# Altium integrated library NSC Audio.IntLib: 691 symbols (part 6 of 18)
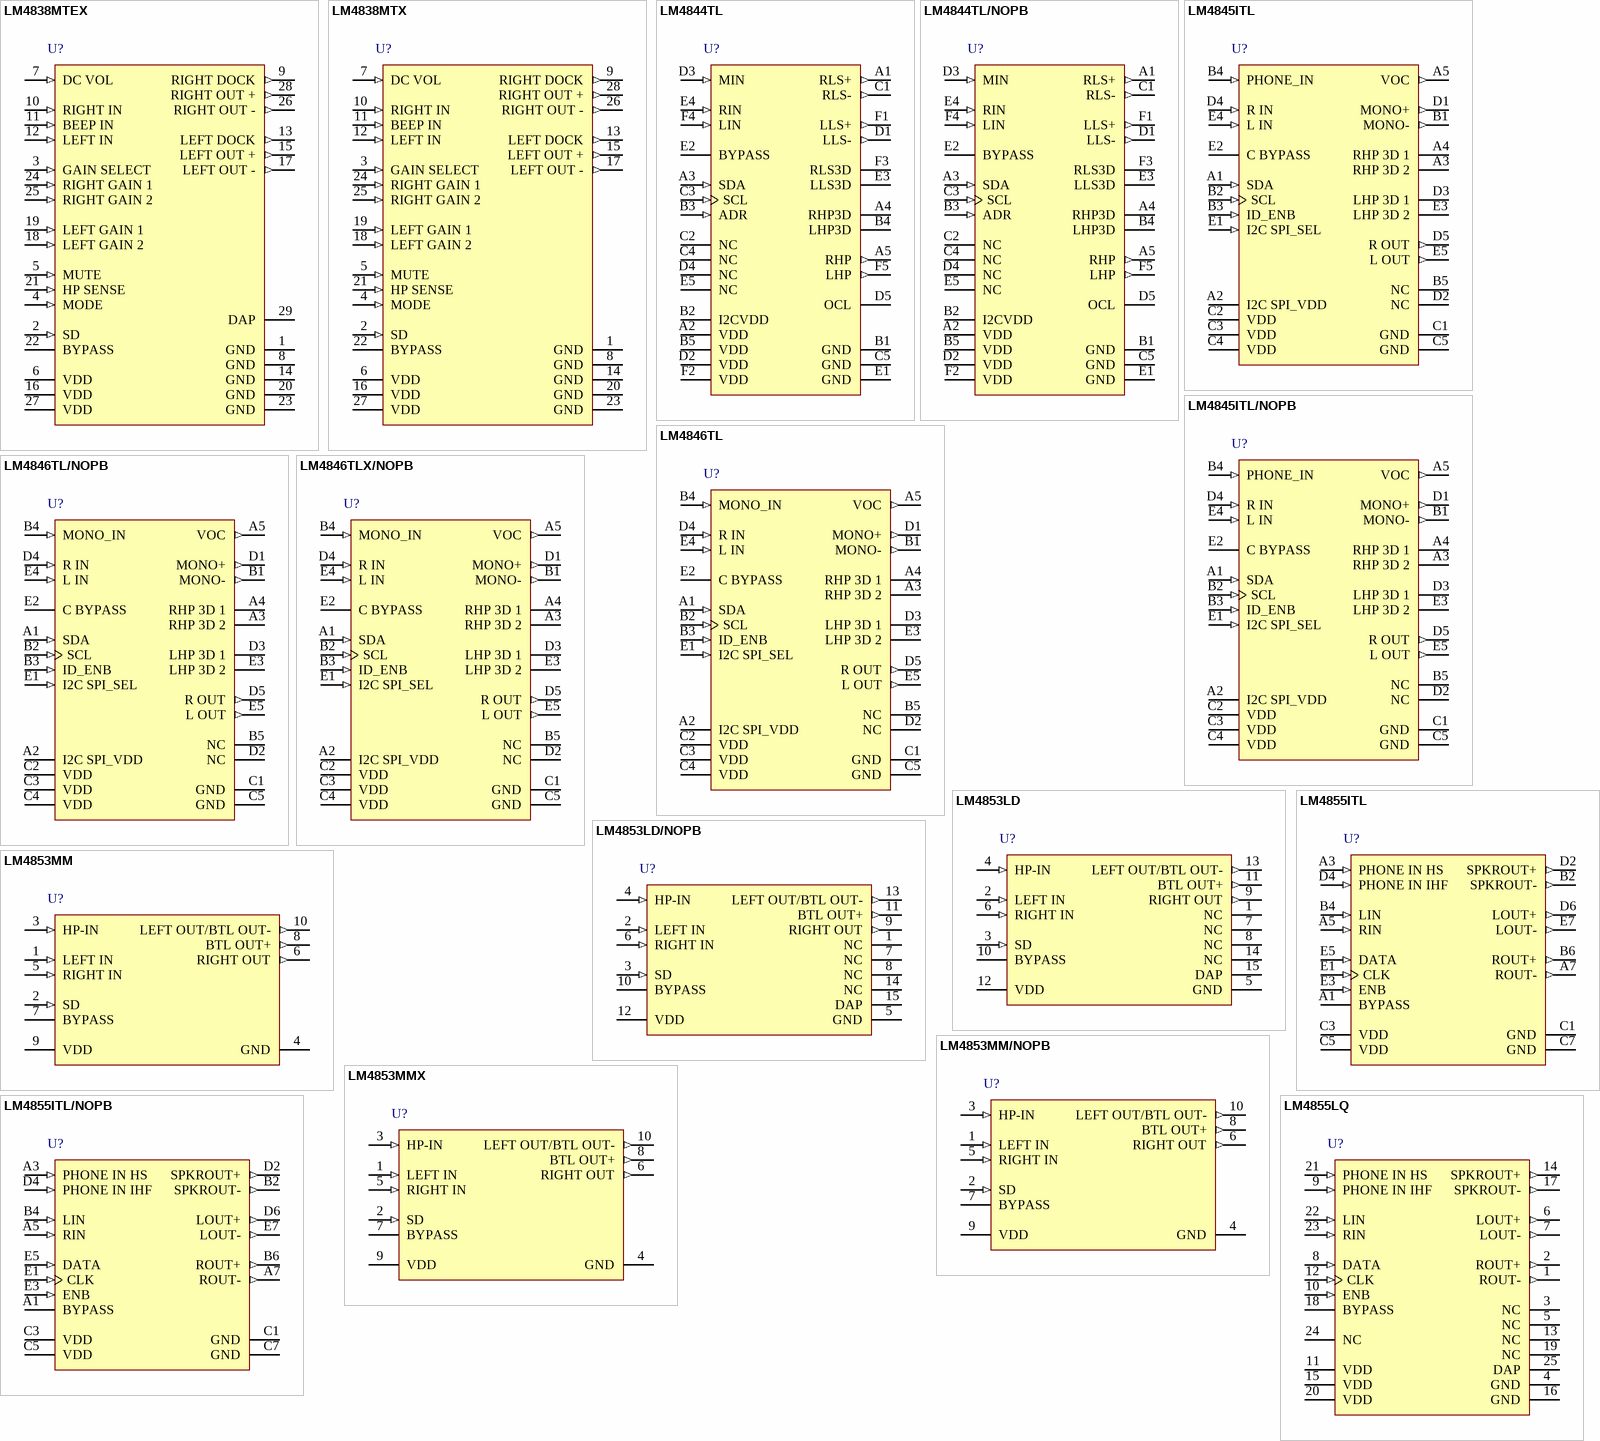
[diagram p32: symbols LM4838MTEX to LM4855LQ]

## LM4846TL
designator U?
Output Capacitor-less Audio Subsystem with Programmable National 3D, 25-pin Micro SMD; PartNumber: LM4846TL; Manufacturer: National Semiconductor; PackageTopMarking: XYTT*I GG5; PowerWise: N; CompType: Audio IC; Published: 4-Dec-2008; DatasheetVersion: Jul-2006; PackageVersion: revD, Dec-2003; PackageReference: TLA25CBA; Publisher: Altium Limited; PackageDescription: Thin Micro SMD, 25 Bump (Large), 0.5mm Pitch; RoHS: Y; PinCount: 25; Code_JEDEC: MO-211-DH; ComponentLink1Description: LM4846 Datasheet; ComponentLink1URL: http://www.national.com/ds/LM/LM4846.pdf; ComponentLink2Description: LM4846 Web Page; ComponentLink2URL: http://www.national.com/pf/LM/LM4846.html; ComponentLink3Description: TLA25CBA Package Page; ComponentLink3URL: http://www.national.com/packaging/folders/tla25cba.html
footprint TLA25CBA (Micro SMD, 25-Leads, Body 2.52x2.55mm, Pitch 0.5mm, NSC Recommended)
pins: A1 SDA (in), A2 I2C SPI_VDD (power), A3 RHP 3D 2, A4 RHP 3D 1, A5 VOC (out), B1 MONO- (out), B2 SCL (in), B3 ID_ENB (in), B4 MONO_IN (in), B5 NC, C1 GND (power), C2 VDD (power), C3 VDD (power), C4 VDD (power), C5 GND (power), D1 MONO+ (out), D2 NC, D3 LHP 3D 1, D4 R IN (in), D5 R OUT (out), E1 I2C SPI_SEL (in), E2 C BYPASS, E3 LHP 3D 2, E4 L IN (in), E5 L OUT (out)

## LM4846TL/NOPB
designator U?
Output Capacitor-less Audio Subsystem with Programmable National 3D, 25-pin Micro SMD, Pb-Free; PartNumber: LM4846TL/NOPB; Manufacturer: National Semiconductor; PackageTopMarking: XYTT*I GG5; PowerWise: N; CompType: Audio IC; Published: 1-Mar-2010; DatasheetVersion: Jul-2006; PackageVersion: revD, Dec-2003; PackageReference: TLA25CBA; Publisher: Altium Limited; PackageDescription: Thin Micro SMD, 25 Bump (Large), 0.5mm Pitch; Supplier 1: Digi-Key; Supplier Part Number 1: LM4846TLTR-ND; Supplier 2: Digi-Key; Supplier Part Number 2: LM4846TLCT-ND; Supplier 3: Digi-Key; Supplier Part Number 3: LM4846TLDKR-ND; RoHS: Y; PinCount: 25; Code_JEDEC: MO-211-DH; ComponentLink1Description: LM4846 Datasheet; ComponentLink1URL: http://www.national.com/ds/LM/LM4846.pdf; ComponentLink2Description: LM4846 Web Page; ComponentLink2URL: http://www.national.com/pf/LM/LM4846.html; ComponentLink3Description: TLA25CBA Package Page; ComponentLink3URL: http://www.national.com/packaging/folders/tla25cba.html
footprint TLA25CBA (Micro SMD, 25-Leads, Body 2.52x2.55mm, Pitch 0.5mm, NSC Recommended)
pins: A1 SDA (in), A2 I2C SPI_VDD (power), A3 RHP 3D 2, A4 RHP 3D 1, A5 VOC (out), B1 MONO- (out), B2 SCL (in), B3 ID_ENB (in), B4 MONO_IN (in), B5 NC, C1 GND (power), C2 VDD (power), C3 VDD (power), C4 VDD (power), C5 GND (power), D1 MONO+ (out), D2 NC, D3 LHP 3D 1, D4 R IN (in), D5 R OUT (out), E1 I2C SPI_SEL (in), E2 C BYPASS, E3 LHP 3D 2, E4 L IN (in), E5 L OUT (out)

## LM4846TLX/NOPB
designator U?
Output Capacitor-less Audio Subsystem with Programmable National 3D, 25-pin Micro SMD, Pb-Free; PartNumber: LM4846TLX/NOPB; Manufacturer: National Semiconductor; PackageTopMarking: XYTT*I GG5; PowerWise: N; CompType: Audio IC; Published: 1-Mar-2010; DatasheetVersion: Jul-2006; PackageVersion: revD, Dec-2003; PackageReference: TLA25CBA; Publisher: Altium Limited; PackageDescription: Thin Micro SMD, 25 Bump (Large), 0.5mm Pitch; Supplier 1: Digi-Key; Supplier Part Number 1: LM4846TLX-ND; RoHS: Y; PinCount: 25; Code_JEDEC: MO-211-DH; ComponentLink1Description: LM4846 Datasheet; ComponentLink1URL: http://www.national.com/ds/LM/LM4846.pdf; ComponentLink2Description: LM4846 Web Page; ComponentLink2URL: http://www.national.com/pf/LM/LM4846.html; ComponentLink3Description: TLA25CBA Package Page; ComponentLink3URL: http://www.national.com/packaging/folders/tla25cba.html
footprint TLA25CBA (Micro SMD, 25-Leads, Body 2.52x2.55mm, Pitch 0.5mm, NSC Recommended)
pins: A1 SDA (in), A2 I2C SPI_VDD (power), A3 RHP 3D 2, A4 RHP 3D 1, A5 VOC (out), B1 MONO- (out), B2 SCL (in), B3 ID_ENB (in), B4 MONO_IN (in), B5 NC, C1 GND (power), C2 VDD (power), C3 VDD (power), C4 VDD (power), C5 GND (power), D1 MONO+ (out), D2 NC, D3 LHP 3D 1, D4 R IN (in), D5 R OUT (out), E1 I2C SPI_SEL (in), E2 C BYPASS, E3 LHP 3D 2, E4 L IN (in), E5 L OUT (out)

## LM4853LD
designator U?
Mono 1.5 W / Stereo 300mW Power Amplifier, 15-pin LLP; PartNumber: LM4853LD; Manufacturer: National Semiconductor; PackageTopMarking: NS*UZXYTT*L4853LD; PowerWise: N; CompType: Audio IC; Published: 4-Dec-2008; DatasheetVersion: Jan-2003; PackageVersion: revA, Aug-2000; PackageReference: LDA14A; Publisher: Altium Limited; PackageDescription: LLP, Plastic, Dual, 4 x 4 x 0.75mm Body, 14 Lead, 0.5mm Pitch; RoHS: N; PinCount: 14; ComponentLink1Description: LM4853 Datasheet; ComponentLink1URL: http://www.national.com/ds/LM/LM4853.pdf; ComponentLink2Description: LM4853 Web Page; ComponentLink2URL: http://www.national.com/pf/LM/LM4853.html; ComponentLink3Description: LDA14A Package Page; ComponentLink3URL: http://www.national.com/packaging/folders/lda14a.html
footprint LDA14A (PSON, 14-Leads, Body 4x4mm, Pitch 0.5mm, NSC Recommended)
pins: 1 NC, 2 LEFT IN (in), 3 SD (in), 4 HP-IN (in), 5 GND (power), 6 RIGHT IN (in), 7 NC, 8 NC, 9 RIGHT OUT (out), 10 BYPASS, 11 BTL OUT+ (out), 12 VDD (power), 13 LEFT OUT/BTL OUT- (out), 14 NC, 15 DAP (power)

## LM4853LD/NOPB
designator U?
Mono 1.5 W / Stereo 300mW Power Amplifier, 14-pin LLP, Pb-Free; PartNumber: LM4853LD/NOPB; Manufacturer: National Semiconductor; PackageTopMarking: NS*UZXYTT*L4853LD; PowerWise: N; CompType: Audio IC; Published: 1-Mar-2010; DatasheetVersion: Jan-2003; PackageVersion: revA, Aug-2000; PackageReference: LDA14A; Publisher: Altium Limited; PackageDescription: LLP, Plastic, Dual, 4 x 4 x 0.75mm Body, 14 Lead, 0.5mm Pitch; Supplier 1: Digi-Key; Supplier Part Number 1: LM4853LDTR-ND; Supplier 2: Digi-Key; Supplier Part Number 2: LM4853LDCT-ND; Supplier 3: Digi-Key; Supplier Part Number 3: LM4853LDDKR-ND; RoHS: Y; PinCount: 14; ComponentLink1Description: LM4853 Datasheet; ComponentLink1URL: http://www.national.com/ds/LM/LM4853.pdf; ComponentLink2Description: LM4853 Web Page; ComponentLink2URL: http://www.national.com/pf/LM/LM4853.html; ComponentLink3Description: LDA14A Package Page; ComponentLink3URL: http://www.national.com/packaging/folders/lda14a.html
footprint LDA14A (PSON, 14-Leads, Body 4x4mm, Pitch 0.5mm, NSC Recommended)
pins: 1 NC, 2 LEFT IN (in), 3 SD (in), 4 HP-IN (in), 5 GND (power), 6 RIGHT IN (in), 7 NC, 8 NC, 9 RIGHT OUT (out), 10 BYPASS, 11 BTL OUT+ (out), 12 VDD (power), 13 LEFT OUT/BTL OUT- (out), 14 NC, 15 DAP (power)

## LM4853MM
designator U?
Mono 1.5 W / Stereo 300mW Power Amplifier, 10-pin MSOP; PartNumber: LM4853MM; Manufacturer: National Semiconductor; PackageTopMarking: ZXTT*G53; PowerWise: N; CompType: Audio IC; Published: 4-Dec-2008; DatasheetVersion: Jan-2003; PackageVersion: revB, Jul-2003; PackageReference: MUB10A; Publisher: Altium Limited; PackageDescription: Mini-SO, Molded, .118 x .118 x .034in Body, 10 Lead, .0197in Pitch; RoHS: N; PinCount: 10; Code_JEDEC: MO-187-BA; ComponentLink1Description: LM4853 Datasheet; ComponentLink1URL: http://www.national.com/ds/LM/LM4853.pdf; ComponentLink2Description: LM4853 Web Page; ComponentLink2URL: http://www.national.com/pf/LM/LM4853.html; ComponentLink3Description: MUB10A Package Page; ComponentLink3URL: http://www.national.com/packaging/folders/mub10a.html
footprint MUB10A_N (TSSOP, 10-Leads, Body 3x3mm, Pitch 0.5mm, IPC Medium Density)
footprint MUB10A_L (TSSOP, 10-Leads, Body 3x3mm, Pitch 0.5mm, IPC High Density)
footprint MUB10A_M (TSSOP, 10-Leads, Body 3x3mm, Pitch 0.5mm, IPC Low Density)
pins: 1 LEFT IN (in), 2 SD (in), 3 HP-IN (in), 4 GND (power), 5 RIGHT IN (in), 6 RIGHT OUT (out), 7 BYPASS, 8 BTL OUT+ (out), 9 VDD (power), 10 LEFT OUT/BTL OUT- (out)

## LM4853MM/NOPB
designator U?
Mono 1.5 W / Stereo 300mW Power Amplifier, 10-pin Mini SOIC, Pb-Free; PartNumber: LM4853MM/NOPB; Manufacturer: National Semiconductor; PackageTopMarking: ZXTT*G53; PowerWise: N; CompType: Audio IC; Published: 1-Mar-2010; DatasheetVersion: Jan-2003; PackageVersion: revB, Jul-2003; PackageReference: MUB10A; Publisher: Altium Limited; PackageDescription: Mini-SO, Molded, .118 x .118 x .034in Body, 10 Lead, .0197in Pitch; Supplier 1: Digi-Key; Supplier Part Number 1: LM4853MMTR-ND; Supplier 2: Digi-Key; Supplier Part Number 2: LM4853MMCT-ND; Supplier 3: Digi-Key; Supplier Part Number 3: LM4853MMDKR-ND; RoHS: Y; PinCount: 10; Code_JEDEC: MO-187-BA; ComponentLink1Description: LM4853 Datasheet; ComponentLink1URL: http://www.national.com/ds/LM/LM4853.pdf; ComponentLink2Description: LM4853 Web Page; ComponentLink2URL: http://www.national.com/pf/LM/LM4853.html; ComponentLink3Description: MUB10A Package Page; ComponentLink3URL: http://www.national.com/packaging/folders/mub10a.html
footprint MUB10A_N (TSSOP, 10-Leads, Body 3x3mm, Pitch 0.5mm, IPC Medium Density)
footprint MUB10A_L (TSSOP, 10-Leads, Body 3x3mm, Pitch 0.5mm, IPC High Density)
footprint MUB10A_M (TSSOP, 10-Leads, Body 3x3mm, Pitch 0.5mm, IPC Low Density)
pins: 1 LEFT IN (in), 2 SD (in), 3 HP-IN (in), 4 GND (power), 5 RIGHT IN (in), 6 RIGHT OUT (out), 7 BYPASS, 8 BTL OUT+ (out), 9 VDD (power), 10 LEFT OUT/BTL OUT- (out)

## LM4853MMX
designator U?
Mono 1.5 W / Stereo 300mW Power Amplifier, 10-pin Mini SOIC; PartNumber: LM4853MMX; Manufacturer: National Semiconductor; PackageTopMarking: ZXTT*G53; PowerWise: N; CompType: Audio IC; Published: 1-Mar-2010; DatasheetVersion: Jan-2003; PackageVersion: revB, Jul-2003; PackageReference: MUB10A; Publisher: Altium Limited; PackageDescription: Mini-SO, Molded, .118 x .118 x .034in Body, 10 Lead, .0197in Pitch; RoHS: N; PinCount: 10; Code_JEDEC: MO-187-BA; ComponentLink1Description: LM4853 Datasheet; ComponentLink1URL: http://www.national.com/ds/LM/LM4853.pdf; ComponentLink2Description: LM4853 Web Page; ComponentLink2URL: http://www.national.com/pf/LM/LM4853.html; ComponentLink3Description: MUB10A Package Page; ComponentLink3URL: http://www.national.com/packaging/folders/mub10a.html
footprint MUB10A_N (TSSOP, 10-Leads, Body 3x3mm, Pitch 0.5mm, IPC Medium Density)
footprint MUB10A_L (TSSOP, 10-Leads, Body 3x3mm, Pitch 0.5mm, IPC High Density)
footprint MUB10A_M (TSSOP, 10-Leads, Body 3x3mm, Pitch 0.5mm, IPC Low Density)
pins: 1 LEFT IN (in), 2 SD (in), 3 HP-IN (in), 4 GND (power), 5 RIGHT IN (in), 6 RIGHT OUT (out), 7 BYPASS, 8 BTL OUT+ (out), 9 VDD (power), 10 LEFT OUT/BTL OUT- (out)

## LM4855ITL
designator U?
Integrated Audio Amplifier System, 18-pin Micro SMD; PartNumber: LM4855ITL; Manufacturer: National Semiconductor; PackageTopMarking: XYVG*I A9; PowerWise: N; CompType: Audio IC; Published: 4-Dec-2008; DatasheetVersion: Nov-2002; PackageVersion: revD, Jan-2005; PackageReference: TLA18AAA; Publisher: Altium Limited; PackageDescription: Thin Micro SMD, 18 Bump (Large), 0.5mm Pitch; Supplier 1: Farnell; Supplier Part Number 1: 1008021; RoHS: Y; PinCount: 18; ComponentLink1Description: LM4855 Datasheet; ComponentLink1URL: http://www.national.com/ds/LM/LM4855.pdf; ComponentLink2Description: LM4855 Web Page; ComponentLink2URL: http://www.national.com/pf/LM/LM4855.html; ComponentLink3Description: TLA18AAA Package Page; ComponentLink3URL: http://www.national.com/packaging/folders/tla18aaa.html
footprint TLA18AAA (Micro SMD, 18-Leads, Body 2.23x2.0mm, Pitch 0.5mm, NSC Recommended)
pins: A1 BYPASS, A3 PHONE IN HS (in), A5 RIN (in), A7 ROUT- (out), B2 SPKROUT- (out), B4 LIN (in), B6 ROUT+ (out), C1 GND (power), C3 VDD (power), C5 VDD (power), C7 GND (power), D2 SPKROUT+ (out), D4 PHONE IN IHF (in), D6 LOUT+ (out), E1 CLK (in), E3 ENB (in), E5 DATA (in), E7 LOUT- (out)

## LM4855ITL/NOPB
designator U?
Integrated Audio Amplifier System, 18-pin Micro SMD, Pb-Free; PartNumber: LM4855ITL/NOPB; Manufacturer: National Semiconductor; PackageTopMarking: XYVG*I A9; PowerWise: N; CompType: Audio IC; Published: 1-Mar-2010; DatasheetVersion: Nov-2002; PackageVersion: revD, Jan-2005; PackageReference: TLA18AAA; Publisher: Altium Limited; PackageDescription: Thin Micro SMD, 18 Bump (Large), 0.5mm Pitch; Supplier 1: Digi-Key; Supplier Part Number 1: LM4855ITLTR-ND; Supplier 2: Digi-Key; Supplier Part Number 2: LM4855ITLCT-ND; Supplier 3: Digi-Key; Supplier Part Number 3: LM4855ITLDKR-ND; RoHS: Y; PinCount: 18; ComponentLink1Description: LM4855 Datasheet; ComponentLink1URL: http://www.national.com/ds/LM/LM4855.pdf; ComponentLink2Description: LM4855 Web Page; ComponentLink2URL: http://www.national.com/pf/LM/LM4855.html; ComponentLink3Description: TLA18AAA Package Page; ComponentLink3URL: http://www.national.com/packaging/folders/tla18aaa.html
footprint TLA18AAA (Micro SMD, 18-Leads, Body 2.23x2.0mm, Pitch 0.5mm, NSC Recommended)
pins: A1 BYPASS, A3 PHONE IN HS (in), A5 RIN (in), A7 ROUT- (out), B2 SPKROUT- (out), B4 LIN (in), B6 ROUT+ (out), C1 GND (power), C3 VDD (power), C5 VDD (power), C7 GND (power), D2 SPKROUT+ (out), D4 PHONE IN IHF (in), D6 LOUT+ (out), E1 CLK (in), E3 ENB (in), E5 DATA (in), E7 LOUT- (out)

## LM4855LQ
designator U?
Integrated Audio Amplifier System, 25-pin LLP; PartNumber: LM4855LQ; Manufacturer: National Semiconductor; PackageTopMarking: NS*UZXYTT*L4855LQ; PowerWise: N; CompType: Audio IC; Published: 4-Dec-2008; DatasheetVersion: Nov-2002; PackageVersion: revB, Sep-2003; PackageReference: LQA24A; Publisher: Altium Limited; PackageDescription: LLP, Plastic, Quad, 5 x 4 x 0.8mm Body, 24 Lead, 0.5mm Pitch; RoHS: N; PinCount: 24; ComponentLink1Description: LM4855 Datasheet; ComponentLink1URL: http://www.national.com/ds/LM/LM4855.pdf; ComponentLink2Description: LM4855 Web Page; ComponentLink2URL: http://www.national.com/pf/LM/LM4855.html; ComponentLink3Description: LQA24A Package Page; ComponentLink3URL: http://www.national.com/packaging/folders/lqa24a.html
footprint LQA24A (PQFN, 24-Leads, Body 4x5mm, Pitch 0.5mm, NSC Recommended)
pins: 1 ROUT- (out), 2 ROUT+ (out), 3 NC, 4 GND (power), 5 NC, 6 LOUT+ (out), 7 LOUT- (out), 8 DATA (in), 9 PHONE IN IHF (in), 10 ENB (in), 11 VDD (power), 12 CLK (in), 13 NC, 14 SPKROUT+ (out), 15 VDD (power), 16 GND (power), 17 SPKROUT- (out), 18 BYPASS, 19 NC, 20 VDD (power), 21 PHONE IN HS (in), 22 LIN (in), 23 RIN (in), 24 NC, 25 DAP (power)

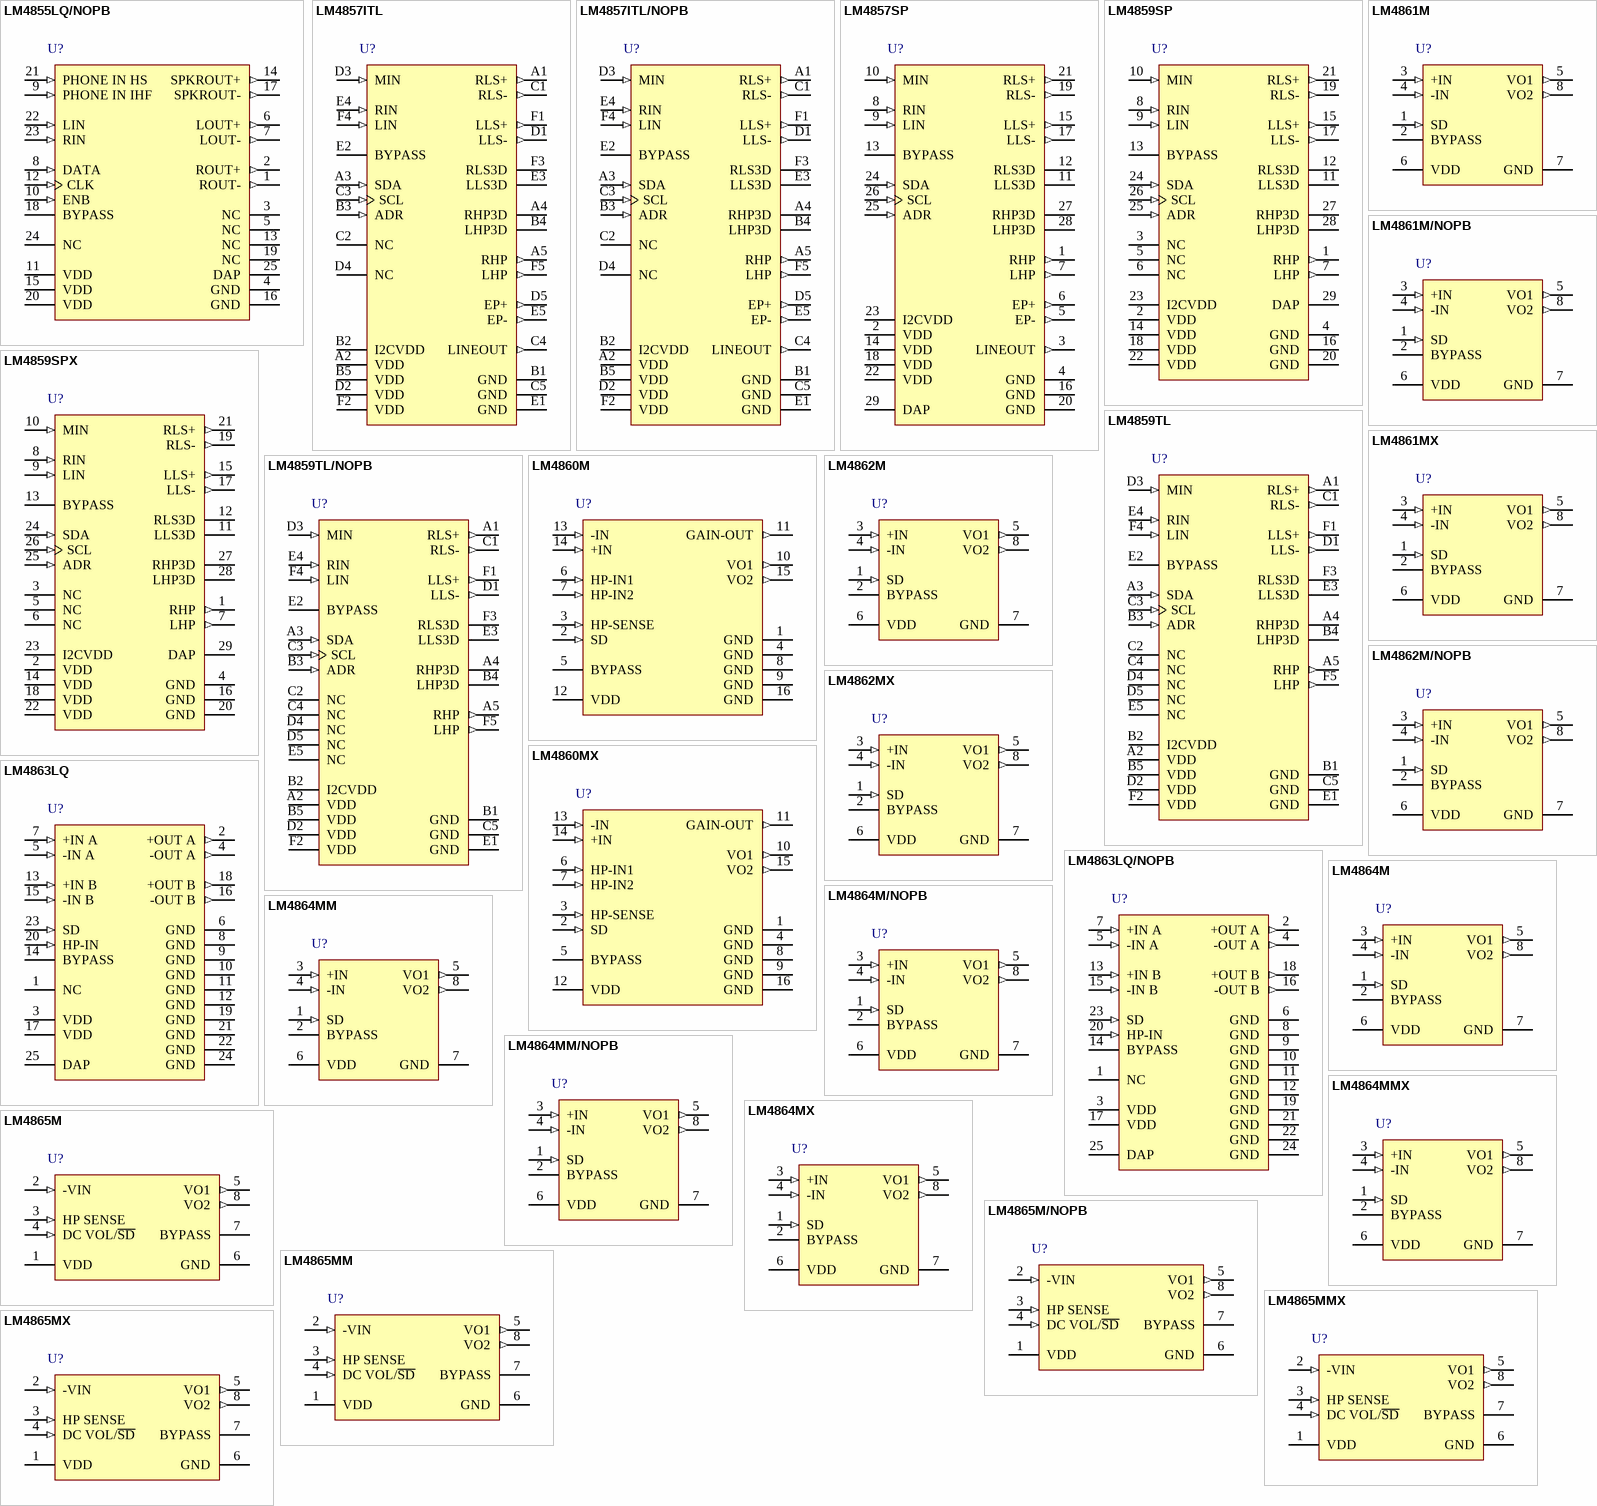
[diagram p8: symbols LM4855LQ/NOPB to LM4865MX]

## LM4855LQ/NOPB
designator U?
Integrated Audio Amplifier System, 24-pin LLP, Pb-Free; PartNumber: LM4855LQ/NOPB; Manufacturer: National Semiconductor; PackageTopMarking: NS*UZXYTT*L4855LQ; PowerWise: N; CompType: Audio IC; Published: 1-Mar-2010; DatasheetVersion: Nov-2002; PackageVersion: revB, Sep-2003; PackageReference: LQA24A; Publisher: Altium Limited; PackageDescription: LLP, Plastic, Quad, 5 x 4 x 0.8mm Body, 24 Lead, 0.5mm Pitch; Supplier 1: Digi-Key; Supplier Part Number 1: LM4855LQTR-ND; Supplier 2: Digi-Key; Supplier Part Number 2: LM4855LQCT-ND; Supplier 3: Digi-Key; Supplier Part Number 3: LM4855LQDKR-ND; RoHS: Y; PinCount: 24; ComponentLink1Description: LM4855 Datasheet; ComponentLink1URL: http://www.national.com/ds/LM/LM4855.pdf; ComponentLink2Description: LM4855 Web Page; ComponentLink2URL: http://www.national.com/pf/LM/LM4855.html; ComponentLink3Description: LQA24A Package Page; ComponentLink3URL: http://www.national.com/packaging/folders/lqa24a.html
footprint LQA24A (PQFN, 24-Leads, Body 4x5mm, Pitch 0.5mm, NSC Recommended)
pins: 1 ROUT- (out), 2 ROUT+ (out), 3 NC, 4 GND (power), 5 NC, 6 LOUT+ (out), 7 LOUT- (out), 8 DATA (in), 9 PHONE IN IHF (in), 10 ENB (in), 11 VDD (power), 12 CLK (in), 13 NC, 14 SPKROUT+ (out), 15 VDD (power), 16 GND (power), 17 SPKROUT- (out), 18 BYPASS, 19 NC, 20 VDD (power), 21 PHONE IN HS (in), 22 LIN (in), 23 RIN (in), 24 NC, 25 DAP (power)

## LM4857ITL
designator U?
Stereo 1.2W Audio Sub-system with 3D Enhancement, 30-pin Micro SMD; PartNumber: LM4857ITL; Manufacturer: National Semiconductor; PackageTopMarking: XVG*I C2; PowerWise: N; CompType: Audio IC; Published: 4-Dec-2008; DatasheetVersion: Jun-2005; PackageVersion: revC, Dec-2003; PackageReference: TLA30CZA; Publisher: Altium Limited; PackageDescription: Thin Micro SMD, 30 Bump (Large), 0.5mm Pitch; Supplier 1: Farnell; Supplier Part Number 1: 8181144; RoHS: Y; PinCount: 30; Code_JEDEC: MO-211-DJ; ComponentLink1Description: LM4857 Datasheet; ComponentLink1URL: http://www.national.com/ds/LM/LM4857.pdf; ComponentLink2Description: LM4857 Web Page; ComponentLink2URL: http://www.national.com/pf/LM/LM4857.html; ComponentLink3Description: TLA30CZA Package Page; ComponentLink3URL: http://www.national.com/packaging/folders/tla30cza.html
footprint TLA30CZA (Micro SMD, 30-Leads, Body 2.95x2.55mm, Pitch 0.5mm, NSC Recommended)
pins: A1 RLS+ (out), A2 VDD (power), A3 SDA (in), A4 RHP3D, A5 RHP (out), B1 GND (power), B2 I2CVDD (power), B3 ADR (in), B4 LHP3D, B5 VDD (power), C1 RLS- (out), C2 NC, C3 SCL (in), C4 LINEOUT (out), C5 GND (power), D1 LLS- (out), D2 VDD (power), D3 MIN (in), D4 NC, D5 EP+ (out), E1 GND (power), E2 BYPASS, E3 LLS3D, E4 RIN (in), E5 EP- (out), F1 LLS+ (out), F2 VDD (power), F3 RLS3D, F4 LIN (in), F5 LHP (out)

## LM4857ITL/NOPB
designator U?
Stereo 1.2W Audio Sub-system with 3D Enhancement, 30-pin Micro SMD, Pb-Free; PartNumber: LM4857ITL/NOPB; Manufacturer: National Semiconductor; PackageTopMarking: XVG*I C2; PowerWise: N; CompType: Audio IC; Published: 1-Mar-2010; DatasheetVersion: Jun-2005; PackageVersion: revC, Dec-2003; PackageReference: TLA30CZA; Publisher: Altium Limited; PackageDescription: Thin Micro SMD, 30 Bump (Large), 0.5mm Pitch; Supplier 1: Digi-Key; Supplier Part Number 1: LM4857ITLTR-ND; Supplier 2: Digi-Key; Supplier Part Number 2: LM4857ITLCT-ND; Supplier 3: Digi-Key; Supplier Part Number 3: LM4857ITLDKR-ND; RoHS: Y; PinCount: 30; Code_JEDEC: MO-211-DJ; ComponentLink1Description: LM4857 Datasheet; ComponentLink1URL: http://www.national.com/ds/LM/LM4857.pdf; ComponentLink2Description: LM4857 Web Page; ComponentLink2URL: http://www.national.com/pf/LM/LM4857.html; ComponentLink3Description: TLA30CZA Package Page; ComponentLink3URL: http://www.national.com/packaging/folders/tla30cza.html
footprint TLA30CZA (Micro SMD, 30-Leads, Body 2.95x2.55mm, Pitch 0.5mm, NSC Recommended)
pins: A1 RLS+ (out), A2 VDD (power), A3 SDA (in), A4 RHP3D, A5 RHP (out), B1 GND (power), B2 I2CVDD (power), B3 ADR (in), B4 LHP3D, B5 VDD (power), C1 RLS- (out), C2 NC, C3 SCL (in), C4 LINEOUT (out), C5 GND (power), D1 LLS- (out), D2 VDD (power), D3 MIN (in), D4 NC, D5 EP+ (out), E1 GND (power), E2 BYPASS, E3 LLS3D, E4 RIN (in), E5 EP- (out), F1 LLS+ (out), F2 VDD (power), F3 RLS3D, F4 LIN (in), F5 LHP (out)

## LM4857SP
designator U?
Stereo 1.2W Audio Sub-system with 3D Enhancement, 29-pin LLP; PartNumber: LM4857SP; Manufacturer: National Semiconductor; PackageTopMarking: NS*UZXYTT*L4857SP; PowerWise: N; CompType: Audio IC; Published: 4-Dec-2008; DatasheetVersion: Jun-2005; PackageVersion: revA, Aug-2003; PackageReference: SPA28A; Publisher: Altium Limited; PackageDescription: LLP, Plastic, Quad, 5 x 5 x 0.6mm Body, 28 Lead, 0.5mm Pitch, No Pullback; RoHS: N; PinCount: 28; Code_JEDEC: MO-220-WHHD-3; ComponentLink1Description: LM4857 Datasheet; ComponentLink1URL: http://www.national.com/ds/LM/LM4857.pdf; ComponentLink2Description: LM4857 Web Page; ComponentLink2URL: http://www.national.com/pf/LM/LM4857.html; ComponentLink3Description: SPA28A Package Page; ComponentLink3URL: http://www.national.com/packaging/folders/spa28a.html
footprint SPA28A (QFN, 28-Leads, Body 5x5mm, Pitch 0.5mm, NSC Recommended)
pins: 1 RHP (out), 2 VDD (power), 3 LINEOUT (out), 4 GND (power), 5 EP- (out), 6 EP+ (out), 7 LHP (out), 8 RIN (in), 9 LIN (in), 10 MIN (in), 11 LLS3D, 12 RLS3D, 13 BYPASS, 14 VDD (power), 15 LLS+ (out), 16 GND (power), 17 LLS- (out), 18 VDD (power), 19 RLS- (out), 20 GND (power), 21 RLS+ (out), 22 VDD (power), 23 I2CVDD (power), 24 SDA (in), 25 ADR (in), 26 SCL (in), 27 RHP3D, 28 LHP3D, 29 DAP (power)

## LM4859SP
designator U?
Stereo 1.2W Audio Sub-system with 3D Enhancement, 29-pin LLP; PartNumber: LM4859SP; Manufacturer: National Semiconductor; PackageTopMarking: NS*UZXYTT*L4859SP; PowerWise: N; CompType: Audio IC; Published: 4-Dec-2008; DatasheetVersion: Jun-2005; PackageVersion: revA, Aug-2003; PackageReference: SPA28A; Publisher: Altium Limited; PackageDescription: LLP, Plastic, Quad, 5 x 5 x 0.6mm Body, 28 Lead, 0.5mm Pitch, No Pullback; RoHS: N; PinCount: 28; Code_JEDEC: MO-220-WHHD-3; ComponentLink1Description: LM4859 Datasheet; ComponentLink1URL: http://www.national.com/ds/LM/LM4859.pdf; ComponentLink2Description: LM4859 Web Page; ComponentLink2URL: http://www.national.com/pf/LM/LM4859.html; ComponentLink3Description: SPA28A Package Page; ComponentLink3URL: http://www.national.com/packaging/folders/spa28a.html
footprint SPA28A (QFN, 28-Leads, Body 5x5mm, Pitch 0.5mm, NSC Recommended)
pins: 1 RHP (out), 2 VDD (power), 3 NC, 4 GND (power), 5 NC, 6 NC, 7 LHP (out), 8 RIN (in), 9 LIN (in), 10 MIN (in), 11 LLS3D, 12 RLS3D, 13 BYPASS, 14 VDD (power), 15 LLS+ (out), 16 GND (power), 17 LLS- (out), 18 VDD (power), 19 RLS- (out), 20 GND (power), 21 RLS+ (out), 22 VDD (power), 23 I2CVDD (power), 24 SDA (in), 25 ADR (in), 26 SCL (in), 27 RHP3D, 28 LHP3D, 29 DAP (power)

## LM4859SPX
designator U?
Stereo 1.2W Audio Sub-system with 3D Enhancement, 28-pin LLP; PartNumber: LM4859SPX; Manufacturer: National Semiconductor; PackageTopMarking: NS*UZXYTT*L4859SP; PowerWise: N; CompType: Audio IC; Published: 1-Mar-2010; DatasheetVersion: Jun-2005; PackageVersion: revA, Aug-2003; PackageReference: SPA28A; Publisher: Altium Limited; PackageDescription: LLP, Plastic, Quad, 5 x 5 x 0.6mm Body, 28 Lead, 0.5mm Pitch, No Pullback; RoHS: N; PinCount: 28; Code_JEDEC: MO-220-WHHD-3; ComponentLink1Description: LM4859 Datasheet; ComponentLink1URL: http://www.national.com/ds/LM/LM4859.pdf; ComponentLink2Description: LM4859 Web Page; ComponentLink2URL: http://www.national.com/pf/LM/LM4859.html; ComponentLink3Description: SPA28A Package Page; ComponentLink3URL: http://www.national.com/packaging/folders/spa28a.html
footprint SPA28A (QFN, 28-Leads, Body 5x5mm, Pitch 0.5mm, NSC Recommended)
pins: 1 RHP (out), 2 VDD (power), 3 NC, 4 GND (power), 5 NC, 6 NC, 7 LHP (out), 8 RIN (in), 9 LIN (in), 10 MIN (in), 11 LLS3D, 12 RLS3D, 13 BYPASS, 14 VDD (power), 15 LLS+ (out), 16 GND (power), 17 LLS- (out), 18 VDD (power), 19 RLS- (out), 20 GND (power), 21 RLS+ (out), 22 VDD (power), 23 I2CVDD (power), 24 SDA (in), 25 ADR (in), 26 SCL (in), 27 RHP3D, 28 LHP3D, 29 DAP (power)

## LM4859TL
designator U?
Stereo 1.2W Audio Sub-system with 3D Enhancement, 30-pin Micro SMD; PartNumber: LM4859TL; Manufacturer: National Semiconductor; PackageTopMarking: XYTT*I GF1; PowerWise: N; CompType: Audio IC; Published: 4-Dec-2008; DatasheetVersion: Jun-2005; PackageVersion: revC, Dec-2003; PackageReference: TLA30CZA; Publisher: Altium Limited; PackageDescription: Thin Micro SMD, 30 Bump (Large), 0.5mm Pitch; RoHS: Y; PinCount: 30; Code_JEDEC: MO-211-DJ; ComponentLink1Description: LM4859 Datasheet; ComponentLink1URL: http://www.national.com/ds/LM/LM4859.pdf; ComponentLink2Description: LM4859 Web Page; ComponentLink2URL: http://www.national.com/pf/LM/LM4859.html; ComponentLink3Description: TLA30CZA Package Page; ComponentLink3URL: http://www.national.com/packaging/folders/tla30cza.html
footprint TLA30CZA (Micro SMD, 30-Leads, Body 2.95x2.55mm, Pitch 0.5mm, NSC Recommended)
pins: A1 RLS+ (out), A2 VDD (power), A3 SDA (in), A4 RHP3D, A5 RHP (out), B1 GND (power), B2 I2CVDD (power), B3 ADR (in), B4 LHP3D, B5 VDD (power), C1 RLS- (out), C2 NC, C3 SCL (in), C4 NC, C5 GND (power), D1 LLS- (out), D2 VDD (power), D3 MIN (in), D4 NC, D5 NC, E1 GND (power), E2 BYPASS, E3 LLS3D, E4 RIN (in), E5 NC, F1 LLS+ (out), F2 VDD (power), F3 RLS3D, F4 LIN (in), F5 LHP (out)

## LM4859TL/NOPB
designator U?
Stereo 1.2W Audio Sub-system with 3D Enhancement, 30-pin Micro SMD, Pb-Free; PartNumber: LM4859TL/NOPB; Manufacturer: National Semiconductor; PackageTopMarking: XYTT*I GF1; PowerWise: N; CompType: Audio IC; Published: 1-Mar-2010; DatasheetVersion: Jun-2005; PackageVersion: revC, Dec-2003; PackageReference: TLA30CZA; Publisher: Altium Limited; PackageDescription: Thin Micro SMD, 30 Bump (Large), 0.5mm Pitch; Supplier 1: Digi-Key; Supplier Part Number 1: LM4859TLTR-ND; Supplier 2: Digi-Key; Supplier Part Number 2: LM4859TLCT-ND; Supplier 3: Digi-Key; Supplier Part Number 3: LM4859TLDKR-ND; RoHS: Y; PinCount: 30; Code_JEDEC: MO-211-DJ; ComponentLink1Description: LM4859 Datasheet; ComponentLink1URL: http://www.national.com/ds/LM/LM4859.pdf; ComponentLink2Description: LM4859 Web Page; ComponentLink2URL: http://www.national.com/pf/LM/LM4859.html; ComponentLink3Description: TLA30CZA Package Page; ComponentLink3URL: http://www.national.com/packaging/folders/tla30cza.html
footprint TLA30CZA (Micro SMD, 30-Leads, Body 2.95x2.55mm, Pitch 0.5mm, NSC Recommended)
pins: A1 RLS+ (out), A2 VDD (power), A3 SDA (in), A4 RHP3D, A5 RHP (out), B1 GND (power), B2 I2CVDD (power), B3 ADR (in), B4 LHP3D, B5 VDD (power), C1 RLS- (out), C2 NC, C3 SCL (in), C4 NC, C5 GND (power), D1 LLS- (out), D2 VDD (power), D3 MIN (in), D4 NC, D5 NC, E1 GND (power), E2 BYPASS, E3 LLS3D, E4 RIN (in), E5 NC, F1 LLS+ (out), F2 VDD (power), F3 RLS3D, F4 LIN (in), F5 LHP (out)

## LM4860M
designator U?
1W Audio Power Amplifier with Shutdown Mode, 16-pin Narrow SOIC; PartNumber: LM4860M; Manufacturer: National Semiconductor; PackageTopMarking: NSUZXYTTE#*LM4860M; PowerWise: N; CompType: Audio IC; Published: 4-Dec-2008; DatasheetVersion: Aug-2000; PackageVersion: revJ, Aug-1995; PackageReference: M16A; Publisher: Altium Limited; PackageDescription: Molded Package, SO, .150in Wide, 16 Lead; Supplier 1: Farnell; Supplier Part Number 1: 9490540; RoHS: N; PinCount: 16; Code_JEDEC: MS-012-AC; Code_IPC: SOIC127P600-16; ComponentLink1Description: LM4860 Datasheet; ComponentLink1URL: http://www.national.com/ds/LM/LM4860.pdf; ComponentLink2Description: LM4860 Web Page; ComponentLink2URL: http://www.national.com/pf/LM/LM4860.html; ComponentLink3Description: M16A Package Page; ComponentLink3URL: http://www.national.com/packaging/folders/m16a.html
footprint M16A_N (SOIC, 16-Leads, Body 9.9x3.9mm, Pitch 1.27mm, IPC Medium Density)
footprint M16A_L (SOIC, 16-Leads, Body 9.9x3.9mm, Pitch 1.27mm, IPC High Density)
footprint M16A_M (SOIC, 16-Leads, Body 9.9x3.9mm, Pitch 1.27mm, IPC Low Density)
pins: 1 GND (power), 2 SD (in), 3 HP-SENSE (in), 4 GND (power), 5 BYPASS, 6 HP-IN1 (in), 7 HP-IN2 (in), 8 GND (power), 9 GND (power), 10 VO1 (out), 11 GAIN-OUT (out), 12 VDD (power), 13 -IN (in), 14 +IN (in), 15 VO2 (out), 16 GND (power)

## LM4860MX
designator U?
1W Audio Power Amplifier with Shutdown Mode, 16-pin Narrow SOIC; PartNumber: LM4860MX; Manufacturer: National Semiconductor; PackageTopMarking: NSUZXYTTE#*LM4860M; PowerWise: N; CompType: Audio IC; Published: 1-Mar-2010; DatasheetVersion: Aug-2000; PackageVersion: revJ, Aug-1995; PackageReference: M16A; Publisher: Altium Limited; PackageDescription: Molded Package, SO, .150in Wide, 16 Lead; RoHS: N; PinCount: 16; Code_JEDEC: MS-012-AC; Code_IPC: SOIC127P600-16; ComponentLink1Description: LM4860 Datasheet; ComponentLink1URL: http://www.national.com/ds/LM/LM4860.pdf; ComponentLink2Description: LM4860 Web Page; ComponentLink2URL: http://www.national.com/pf/LM/LM4860.html; ComponentLink3Description: M16A Package Page; ComponentLink3URL: http://www.national.com/packaging/folders/m16a.html
footprint M16A_N (SOIC, 16-Leads, Body 9.9x3.9mm, Pitch 1.27mm, IPC Medium Density)
footprint M16A_L (SOIC, 16-Leads, Body 9.9x3.9mm, Pitch 1.27mm, IPC High Density)
footprint M16A_M (SOIC, 16-Leads, Body 9.9x3.9mm, Pitch 1.27mm, IPC Low Density)
pins: 1 GND (power), 2 SD (in), 3 HP-SENSE (in), 4 GND (power), 5 BYPASS, 6 HP-IN1 (in), 7 HP-IN2 (in), 8 GND (power), 9 GND (power), 10 VO1 (out), 11 GAIN-OUT (out), 12 VDD (power), 13 -IN (in), 14 +IN (in), 15 VO2 (out), 16 GND (power)

## LM4861M
designator U?
1.1W Audio Power Amplifier with Shutdown Mode, 8-pin Narrow SOIC; PartNumber: LM4861M; Manufacturer: National Semiconductor; PackageTopMarking: NSZXTT*LM*4861M; PowerWise: N; CompType: Audio IC; Published: 4-Dec-2008; DatasheetVersion: Feb-2003; PackageVersion: revM, May-2009; PackageReference: M08A; Publisher: Altium Limited; PackageDescription: SOIC Narrow, 4.9 x 3.9 x 1.45mm, 8 Lead, 1.27mm Pitch; Supplier 1: Farnell; Supplier Part Number 1: 9493794; RoHS: N; PinCount: 8; Code_JEDEC: MS-012-AA; Code_IPC: SOIC127P600-8; ComponentLink1Description: LM4861 Datasheet; ComponentLink1URL: http://www.national.com/ds/LM/LM4861.pdf; ComponentLink2Description: LM4861 Web Page; ComponentLink2URL: http://www.national.com/pf/LM/LM4861.html; ComponentLink3Description: M08A Package Page; ComponentLink3URL: http://www.national.com/packaging/folders/m08a.html
footprint M08A_N (SOIC, 8-Leads, Body 4.9x3.9mm, Pitch 1.27mm, IPC Medium Density)
footprint M08A_L (SOIC, 8-Leads, Body 4.9x3.9mm, Pitch 1.27mm, IPC High Density)
footprint M08A_M (SOIC, 8-Leads, Body 4.9x3.9mm, Pitch 1.27mm, IPC Low Density)
pins: 1 SD (in), 2 BYPASS, 3 +IN (in), 4 -IN (in), 5 VO1 (out), 6 VDD (power), 7 GND (power), 8 VO2 (out)

## LM4861M/NOPB
designator U?
1.1W Audio Power Amplifier with Shutdown Mode, 8-pin Narrow SOIC, Pb-Free; PartNumber: LM4861M/NOPB; Manufacturer: National Semiconductor; PackageTopMarking: NSZXTT*LM*4861M; PowerWise: N; CompType: Audio IC; Published: 1-Mar-2010; DatasheetVersion: Feb-2003; PackageVersion: revM, May-2009; PackageReference: M08A; Publisher: Altium Limited; PackageDescription: SOIC Narrow, 4.9 x 3.9 x 1.45mm, 8 Lead, 1.27mm Pitch; Supplier 1: Digi-Key; Supplier Part Number 1: LM4861M-ND; Supplier 2: Farnell; Supplier Part Number 2: 1263952; RoHS: Y; PinCount: 8; Code_JEDEC: MS-012-AA; Code_IPC: SOIC127P600-8; ComponentLink1Description: LM4861 Datasheet; ComponentLink1URL: http://www.national.com/ds/LM/LM4861.pdf; ComponentLink2Description: LM4861 Web Page; ComponentLink2URL: http://www.national.com/pf/LM/LM4861.html; ComponentLink3Description: M08A Package Page; ComponentLink3URL: http://www.national.com/packaging/folders/m08a.html
footprint M08A_N (SOIC, 8-Leads, Body 4.9x3.9mm, Pitch 1.27mm, IPC Medium Density)
footprint M08A_L (SOIC, 8-Leads, Body 4.9x3.9mm, Pitch 1.27mm, IPC High Density)
footprint M08A_M (SOIC, 8-Leads, Body 4.9x3.9mm, Pitch 1.27mm, IPC Low Density)
pins: 1 SD (in), 2 BYPASS, 3 +IN (in), 4 -IN (in), 5 VO1 (out), 6 VDD (power), 7 GND (power), 8 VO2 (out)

## LM4861MX
designator U?
1.1W Audio Power Amplifier with Shutdown Mode, 8-pin Narrow SOIC; PartNumber: LM4861MX; Manufacturer: National Semiconductor; PackageTopMarking: NSZXTT*LM*4861M; PowerWise: N; CompType: Audio IC; Published: 1-Mar-2010; DatasheetVersion: Feb-2003; PackageVersion: revM, May-2009; PackageReference: M08A; Publisher: Altium Limited; PackageDescription: SOIC Narrow, 4.9 x 3.9 x 1.45mm, 8 Lead, 1.27mm Pitch; Supplier 1: Digi-Key; Supplier Part Number 1: LM4861MXTR-ND; Supplier 2: Digi-Key; Supplier Part Number 2: LM4861MXCT-ND; Supplier 3: Digi-Key; Supplier Part Number 3: LM4861MXDKR-ND; RoHS: N; PinCount: 8; Code_JEDEC: MS-012-AA; Code_IPC: SOIC127P600-8; ComponentLink1Description: LM4861 Datasheet; ComponentLink1URL: http://www.national.com/ds/LM/LM4861.pdf; ComponentLink2Description: LM4861 Web Page; ComponentLink2URL: http://www.national.com/pf/LM/LM4861.html; ComponentLink3Description: M08A Package Page; ComponentLink3URL: http://www.national.com/packaging/folders/m08a.html
footprint M08A_N (SOIC, 8-Leads, Body 4.9x3.9mm, Pitch 1.27mm, IPC Medium Density)
footprint M08A_L (SOIC, 8-Leads, Body 4.9x3.9mm, Pitch 1.27mm, IPC High Density)
footprint M08A_M (SOIC, 8-Leads, Body 4.9x3.9mm, Pitch 1.27mm, IPC Low Density)
pins: 1 SD (in), 2 BYPASS, 3 +IN (in), 4 -IN (in), 5 VO1 (out), 6 VDD (power), 7 GND (power), 8 VO2 (out)

## LM4862M
designator U?
675 mW Audio Power Amplifier with Shutdown Mode, 8-pin Narrow SOIC; PartNumber: LM4862M; Manufacturer: National Semiconductor; PackageTopMarking: NSZXTT*LM*4862M; PowerWise: N; CompType: Audio IC; Published: 4-Dec-2008; DatasheetVersion: Sep-2004; PackageVersion: revM, May-2009; PackageReference: M08A; Publisher: Altium Limited; PackageDescription: SOIC Narrow, 4.9 x 3.9 x 1.45mm, 8 Lead, 1.27mm Pitch; Supplier 1: Digi-Key; Supplier Part Number 1: LM4862M-ND; RoHS: N; PinCount: 8; Code_JEDEC: MS-012-AA; Code_IPC: SOIC127P600-8; ComponentLink1Description: LM4862 Datasheet; ComponentLink1URL: http://www.national.com/ds/LM/LM4862.pdf; ComponentLink2Description: LM4862 Web Page; ComponentLink2URL: http://www.national.com/pf/LM/LM4862.html; ComponentLink3Description: M08A Package Page; ComponentLink3URL: http://www.national.com/packaging/folders/m08a.html
footprint M08A_N (SOIC, 8-Leads, Body 4.9x3.9mm, Pitch 1.27mm, IPC Medium Density)
footprint M08A_L (SOIC, 8-Leads, Body 4.9x3.9mm, Pitch 1.27mm, IPC High Density)
footprint M08A_M (SOIC, 8-Leads, Body 4.9x3.9mm, Pitch 1.27mm, IPC Low Density)
pins: 1 SD (in), 2 BYPASS, 3 +IN (in), 4 -IN (in), 5 VO1 (out), 6 VDD (power), 7 GND (power), 8 VO2 (out)

## LM4862M/NOPB
designator U?
675 mW Audio Power Amplifier with Shutdown Mode, 8-pin Narrow SOIC, Pb-Free; PartNumber: LM4862M/NOPB; Manufacturer: National Semiconductor; PackageTopMarking: NSZXTT*LM*4862M; PowerWise: N; CompType: Audio IC; Published: 1-Mar-2010; DatasheetVersion: Sep-2004; PackageVersion: revM, May-2009; PackageReference: M08A; Publisher: Altium Limited; PackageDescription: SOIC Narrow, 4.9 x 3.9 x 1.45mm, 8 Lead, 1.27mm Pitch; Supplier 1: Digi-Key; Supplier Part Number 1: LM4862M/NOPB-ND; Supplier 2: Farnell; Supplier Part Number 2: 1564793; RoHS: Y; PinCount: 8; Code_JEDEC: MS-012-AA; Code_IPC: SOIC127P600-8; ComponentLink1Description: LM4862 Datasheet; ComponentLink1URL: http://www.national.com/ds/LM/LM4862.pdf; ComponentLink2Description: LM4862 Web Page; ComponentLink2URL: http://www.national.com/pf/LM/LM4862.html; ComponentLink3Description: M08A Package Page; ComponentLink3URL: http://www.national.com/packaging/folders/m08a.html
footprint M08A_N (SOIC, 8-Leads, Body 4.9x3.9mm, Pitch 1.27mm, IPC Medium Density)
footprint M08A_L (SOIC, 8-Leads, Body 4.9x3.9mm, Pitch 1.27mm, IPC High Density)
footprint M08A_M (SOIC, 8-Leads, Body 4.9x3.9mm, Pitch 1.27mm, IPC Low Density)
pins: 1 SD (in), 2 BYPASS, 3 +IN (in), 4 -IN (in), 5 VO1 (out), 6 VDD (power), 7 GND (power), 8 VO2 (out)

## LM4862MX
designator U?
675 mW Audio Power Amplifier with Shutdown Mode, 8-pin Narrow SOIC; PartNumber: LM4862MX; Manufacturer: National Semiconductor; PackageTopMarking: NSZXTT*LM*4862M; PowerWise: N; CompType: Audio IC; Published: 1-Mar-2010; DatasheetVersion: Sep-2004; PackageVersion: revM, May-2009; PackageReference: M08A; Publisher: Altium Limited; PackageDescription: SOIC Narrow, 4.9 x 3.9 x 1.45mm, 8 Lead, 1.27mm Pitch; Supplier 1: Digi-Key; Supplier Part Number 1: LM4862MX-ND; RoHS: N; PinCount: 8; Code_JEDEC: MS-012-AA; Code_IPC: SOIC127P600-8; ComponentLink1Description: LM4862 Datasheet; ComponentLink1URL: http://www.national.com/ds/LM/LM4862.pdf; ComponentLink2Description: LM4862 Web Page; ComponentLink2URL: http://www.national.com/pf/LM/LM4862.html; ComponentLink3Description: M08A Package Page; ComponentLink3URL: http://www.national.com/packaging/folders/m08a.html
footprint M08A_N (SOIC, 8-Leads, Body 4.9x3.9mm, Pitch 1.27mm, IPC Medium Density)
footprint M08A_L (SOIC, 8-Leads, Body 4.9x3.9mm, Pitch 1.27mm, IPC High Density)
footprint M08A_M (SOIC, 8-Leads, Body 4.9x3.9mm, Pitch 1.27mm, IPC Low Density)
pins: 1 SD (in), 2 BYPASS, 3 +IN (in), 4 -IN (in), 5 VO1 (out), 6 VDD (power), 7 GND (power), 8 VO2 (out)

## LM4863LQ
designator U?
Dual 2.2W Audio Amplifier Plus Stereo Headphone Function, 25-pin LLP; PartNumber: LM4863LQ; Manufacturer: National Semiconductor; PackageTopMarking: NS*UZXYTT*L4863; PowerWise: N; CompType: Audio IC; Published: 4-Dec-2008; DatasheetVersion: Oct-2006; PackageVersion: revB, Sep-2003; PackageReference: LQA24A; Publisher: Altium Limited; PackageDescription: LLP, Plastic, Quad, 5 x 4 x 0.8mm Body, 24 Lead, 0.5mm Pitch; RoHS: N; PinCount: 24; ComponentLink1Description: LM4863 Datasheet; ComponentLink1URL: http://www.national.com/ds/LM/LM4863.pdf; ComponentLink2Description: LM4863 Web Page; ComponentLink2URL: http://www.national.com/pf/LM/LM4863.html; ComponentLink3Description: LQA24A Package Page; ComponentLink3URL: http://www.national.com/packaging/folders/lqa24a.html
footprint LQA24A (PQFN, 24-Leads, Body 4x5mm, Pitch 0.5mm, NSC Recommended)
pins: 1 NC, 2 +OUT A (out), 3 VDD (power), 4 -OUT A (out), 5 -IN A (in), 6 GND (power), 7 +IN A (in), 8 GND (power), 9 GND (power), 10 GND (power), 11 GND (power), 12 GND (power), 13 +IN B (in), 14 BYPASS, 15 -IN B (in), 16 -OUT B (out), 17 VDD (power), 18 +OUT B (out), 19 GND (power), 20 HP-IN (in), 21 GND (power), 22 GND (power), 23 SD (in), 24 GND (power), 25 DAP (power)

## LM4863LQ/NOPB
designator U?
Dual 2.2W Audio Amplifier Plus Stereo Headphone Function, 24-pin LLP, Pb-Free; PartNumber: LM4863LQ/NOPB; Manufacturer: National Semiconductor; PackageTopMarking: NS*UZXYTT*L4863; PowerWise: N; CompType: Audio IC; Published: 1-Mar-2010; DatasheetVersion: Oct-2006; PackageVersion: revB, Sep-2003; PackageReference: LQA24A; Publisher: Altium Limited; PackageDescription: LLP, Plastic, Quad, 5 x 4 x 0.8mm Body, 24 Lead, 0.5mm Pitch; Supplier 1: Digi-Key; Supplier Part Number 1: LM4863LQTR-ND; Supplier 2: Digi-Key; Supplier Part Number 2: LM4863LQCT-ND; Supplier 3: Digi-Key; Supplier Part Number 3: LM4863LQDKR-ND; RoHS: Y; PinCount: 24; ComponentLink1Description: LM4863 Datasheet; ComponentLink1URL: http://www.national.com/ds/LM/LM4863.pdf; ComponentLink2Description: LM4863 Web Page; ComponentLink2URL: http://www.national.com/pf/LM/LM4863.html; ComponentLink3Description: LQA24A Package Page; ComponentLink3URL: http://www.national.com/packaging/folders/lqa24a.html
footprint LQA24A (PQFN, 24-Leads, Body 4x5mm, Pitch 0.5mm, NSC Recommended)
pins: 1 NC, 2 +OUT A (out), 3 VDD (power), 4 -OUT A (out), 5 -IN A (in), 6 GND (power), 7 +IN A (in), 8 GND (power), 9 GND (power), 10 GND (power), 11 GND (power), 12 GND (power), 13 +IN B (in), 14 BYPASS, 15 -IN B (in), 16 -OUT B (out), 17 VDD (power), 18 +OUT B (out), 19 GND (power), 20 HP-IN (in), 21 GND (power), 22 GND (power), 23 SD (in), 24 GND (power), 25 DAP (power)

## LM4864M
designator U?
300mW Audio Power Amplifier with Shutdown Mode, 8-pin Narrow SOIC; PartNumber: LM4864M; Manufacturer: National Semiconductor; PackageTopMarking: NSZXTT*LM48*64M; PowerWise: N; CompType: Audio IC; Published: 4-Dec-2008; DatasheetVersion: Sep-2004; PackageVersion: revM, May-2009; PackageReference: M08A; Publisher: Altium Limited; PackageDescription: SOIC Narrow, 4.9 x 3.9 x 1.45mm, 8 Lead, 1.27mm Pitch; Supplier 1: Farnell; Supplier Part Number 1: 3298140; RoHS: N; PinCount: 8; Code_JEDEC: MS-012-AA; Code_IPC: SOIC127P600-8; ComponentLink1Description: LM4864 Datasheet; ComponentLink1URL: http://www.national.com/ds/LM/LM4864.pdf; ComponentLink2Description: LM4864 Web Page; ComponentLink2URL: http://www.national.com/pf/LM/LM4864.html; ComponentLink3Description: M08A Package Page; ComponentLink3URL: http://www.national.com/packaging/folders/m08a.html
footprint M08A_N (SOIC, 8-Leads, Body 4.9x3.9mm, Pitch 1.27mm, IPC Medium Density)
footprint M08A_L (SOIC, 8-Leads, Body 4.9x3.9mm, Pitch 1.27mm, IPC High Density)
footprint M08A_M (SOIC, 8-Leads, Body 4.9x3.9mm, Pitch 1.27mm, IPC Low Density)
pins: 1 SD (in), 2 BYPASS, 3 +IN (in), 4 -IN (in), 5 VO1 (out), 6 VDD (power), 7 GND (power), 8 VO2 (out)

## LM4864M/NOPB
designator U?
300mW Audio Power Amplifier with Shutdown Mode, 8-pin Narrow SOIC, Pb-Free; PartNumber: LM4864M/NOPB; Manufacturer: National Semiconductor; PackageTopMarking: NSZXTT*LM48*64M; PowerWise: N; CompType: Audio IC; Published: 1-Mar-2010; DatasheetVersion: Sep-2004; PackageVersion: revM, May-2009; PackageReference: M08A; Publisher: Altium Limited; PackageDescription: SOIC Narrow, 4.9 x 3.9 x 1.45mm, 8 Lead, 1.27mm Pitch; Supplier 1: Digi-Key; Supplier Part Number 1: LM4864M-ND; Supplier 2: Farnell; Supplier Part Number 2: 1694540; RoHS: Y; PinCount: 8; Code_JEDEC: MS-012-AA; Code_IPC: SOIC127P600-8; ComponentLink1Description: LM4864 Datasheet; ComponentLink1URL: http://www.national.com/ds/LM/LM4864.pdf; ComponentLink2Description: LM4864 Web Page; ComponentLink2URL: http://www.national.com/pf/LM/LM4864.html; ComponentLink3Description: M08A Package Page; ComponentLink3URL: http://www.national.com/packaging/folders/m08a.html
footprint M08A_N (SOIC, 8-Leads, Body 4.9x3.9mm, Pitch 1.27mm, IPC Medium Density)
footprint M08A_L (SOIC, 8-Leads, Body 4.9x3.9mm, Pitch 1.27mm, IPC High Density)
footprint M08A_M (SOIC, 8-Leads, Body 4.9x3.9mm, Pitch 1.27mm, IPC Low Density)
pins: 1 SD (in), 2 BYPASS, 3 +IN (in), 4 -IN (in), 5 VO1 (out), 6 VDD (power), 7 GND (power), 8 VO2 (out)

## LM4864MM
designator U?
300mW Audio Power Amplifier with Shutdown Mode, 8-pin Mini SOIC; PartNumber: LM4864MM; Manufacturer: National Semiconductor; PackageTopMarking: ZXTT*Z64; PowerWise: N; CompType: Audio IC; Published: 4-Dec-2008; DatasheetVersion: Sep-2004; PackageVersion: revF, Apr-2008; PackageReference: MUA08A; Publisher: Altium Limited; PackageDescription: MINI SOIC, .118 x .118 x .034in, 8 Lead, .0256in Pitch; Supplier 1: Digi-Key; Supplier Part Number 1: LM4864MMTR-ND; Supplier 2: Digi-Key; Supplier Part Number 2: LM4864MMCT-ND; Supplier 3: Farnell; Supplier Part Number 3: 1312772; RoHS: N; PinCount: 8; Code_JEDEC: MO-187-AA; ComponentLink1Description: LM4864 Datasheet; ComponentLink1URL: http://www.national.com/ds/LM/LM4864.pdf; ComponentLink2Description: LM4864 Web Page; ComponentLink2URL: http://www.national.com/pf/LM/LM4864.html; ComponentLink3Description: MUA08A Package Page; ComponentLink3URL: http://www.national.com/packaging/folders/mua08a.html
footprint MUA08A_N (TSOP, 8-Leads, Body 3x3mm, Pitch 0.65mm, IPC Medium Density)
footprint MUA08A_L (TSOP, 8-Leads, Body 3x3mm, Pitch 0.65mm, IPC High Density)
footprint MUA08A_M (TSOP, 8-Leads, Body 3x3mm, Pitch 0.65mm, IPC Low Density)
pins: 1 SD (in), 2 BYPASS, 3 +IN (in), 4 -IN (in), 5 VO1 (out), 6 VDD (power), 7 GND (power), 8 VO2 (out)

## LM4864MM/NOPB
designator U?
300mW Audio Power Amplifier with Shutdown Mode, 8-pin Mini SOIC, Pb-Free; PartNumber: LM4864MM/NOPB; Manufacturer: National Semiconductor; PackageTopMarking: ZXTT*Z64; PowerWise: N; CompType: Audio IC; Published: 1-Mar-2010; DatasheetVersion: Sep-2004; PackageVersion: revF, Apr-2008; PackageReference: MUA08A; Publisher: Altium Limited; PackageDescription: MINI SOIC, .118 x .118 x .034in, 8 Lead, .0256in Pitch; Supplier 1: Digi-Key; Supplier Part Number 1: LM4864MM/NOPBTR-ND; Supplier 2: Digi-Key; Supplier Part Number 2: LM4864MM/NOPBCT-ND; Supplier 3: Digi-Key; Supplier Part Number 3: LM4864MM/NOPBDKR-ND; RoHS: Y; PinCount: 8; Code_JEDEC: MO-187-AA; ComponentLink1Description: LM4864 Datasheet; ComponentLink1URL: http://www.national.com/ds/LM/LM4864.pdf; ComponentLink2Description: LM4864 Web Page; ComponentLink2URL: http://www.national.com/pf/LM/LM4864.html; ComponentLink3Description: MUA08A Package Page; ComponentLink3URL: http://www.national.com/packaging/folders/mua08a.html
footprint MUA08A_N (TSOP, 8-Leads, Body 3x3mm, Pitch 0.65mm, IPC Medium Density)
footprint MUA08A_L (TSOP, 8-Leads, Body 3x3mm, Pitch 0.65mm, IPC High Density)
footprint MUA08A_M (TSOP, 8-Leads, Body 3x3mm, Pitch 0.65mm, IPC Low Density)
pins: 1 SD (in), 2 BYPASS, 3 +IN (in), 4 -IN (in), 5 VO1 (out), 6 VDD (power), 7 GND (power), 8 VO2 (out)

## LM4864MMX
designator U?
300mW Audio Power Amplifier with Shutdown Mode, 8-pin Mini SOIC; PartNumber: LM4864MMX; Manufacturer: National Semiconductor; PackageTopMarking: ZXTT*Z64; PowerWise: N; CompType: Audio IC; Published: 1-Mar-2010; DatasheetVersion: Sep-2004; PackageVersion: revF, Apr-2008; PackageReference: MUA08A; Publisher: Altium Limited; PackageDescription: MINI SOIC, .118 x .118 x .034in, 8 Lead, .0256in Pitch; Supplier 1: Digi-Key; Supplier Part Number 1: LM4864MMXTR-ND; Supplier 2: Digi-Key; Supplier Part Number 2: LM4864MMXCT-ND; RoHS: N; PinCount: 8; Code_JEDEC: MO-187-AA; ComponentLink1Description: LM4864 Datasheet; ComponentLink1URL: http://www.national.com/ds/LM/LM4864.pdf; ComponentLink2Description: LM4864 Web Page; ComponentLink2URL: http://www.national.com/pf/LM/LM4864.html; ComponentLink3Description: MUA08A Package Page; ComponentLink3URL: http://www.national.com/packaging/folders/mua08a.html
footprint MUA08A_N (TSOP, 8-Leads, Body 3x3mm, Pitch 0.65mm, IPC Medium Density)
footprint MUA08A_L (TSOP, 8-Leads, Body 3x3mm, Pitch 0.65mm, IPC High Density)
footprint MUA08A_M (TSOP, 8-Leads, Body 3x3mm, Pitch 0.65mm, IPC Low Density)
pins: 1 SD (in), 2 BYPASS, 3 +IN (in), 4 -IN (in), 5 VO1 (out), 6 VDD (power), 7 GND (power), 8 VO2 (out)

## LM4864MX
designator U?
300mW Audio Power Amplifier with Shutdown Mode, 8-pin Narrow SOIC; PartNumber: LM4864MX; Manufacturer: National Semiconductor; PackageTopMarking: NSZXTT*LM48*64M; PowerWise: N; CompType: Audio IC; Published: 1-Mar-2010; DatasheetVersion: Sep-2004; PackageVersion: revM, May-2009; PackageReference: M08A; Publisher: Altium Limited; PackageDescription: SOIC Narrow, 4.9 x 3.9 x 1.45mm, 8 Lead, 1.27mm Pitch; RoHS: N; PinCount: 8; Code_JEDEC: MS-012-AA; Code_IPC: SOIC127P600-8; ComponentLink1Description: LM4864 Datasheet; ComponentLink1URL: http://www.national.com/ds/LM/LM4864.pdf; ComponentLink2Description: LM4864 Web Page; ComponentLink2URL: http://www.national.com/pf/LM/LM4864.html; ComponentLink3Description: M08A Package Page; ComponentLink3URL: http://www.national.com/packaging/folders/m08a.html
footprint M08A_N (SOIC, 8-Leads, Body 4.9x3.9mm, Pitch 1.27mm, IPC Medium Density)
footprint M08A_L (SOIC, 8-Leads, Body 4.9x3.9mm, Pitch 1.27mm, IPC High Density)
footprint M08A_M (SOIC, 8-Leads, Body 4.9x3.9mm, Pitch 1.27mm, IPC Low Density)
pins: 1 SD (in), 2 BYPASS, 3 +IN (in), 4 -IN (in), 5 VO1 (out), 6 VDD (power), 7 GND (power), 8 VO2 (out)

## LM4865M
designator U?
750mW Audio Power Amplifier with DC Volume Control and Headphone Switch, 8-pin Narrow SOIC; PartNumber: LM4865M; Manufacturer: National Semiconductor; PackageTopMarking: NSZXTT*LM48*65M; PowerWise: N; CompType: Audio IC; Published: 4-Dec-2008; DatasheetVersion: Oct-2002; PackageVersion: revM, May-2009; PackageReference: M08A; Publisher: Altium Limited; PackageDescription: SOIC Narrow, 4.9 x 3.9 x 1.45mm, 8 Lead, 1.27mm Pitch; Supplier 1: Farnell; Supplier Part Number 1: 9486356; RoHS: N; PinCount: 8; Code_JEDEC: MS-012-AA; Code_IPC: SOIC127P600-8; ComponentLink1Description: LM4865 Datasheet; ComponentLink1URL: http://www.national.com/ds/LM/LM4865.pdf; ComponentLink2Description: LM4865 Web Page; ComponentLink2URL: http://www.national.com/pf/LM/LM4865.html; ComponentLink3Description: M08A Package Page; ComponentLink3URL: http://www.national.com/packaging/folders/m08a.html
footprint M08A_N (SOIC, 8-Leads, Body 4.9x3.9mm, Pitch 1.27mm, IPC Medium Density)
footprint M08A_L (SOIC, 8-Leads, Body 4.9x3.9mm, Pitch 1.27mm, IPC High Density)
footprint M08A_M (SOIC, 8-Leads, Body 4.9x3.9mm, Pitch 1.27mm, IPC Low Density)
pins: 1 VDD (power), 2 -VIN (in), 3 HP SENSE (in), 4 DC VOL/~{SD} (in), 5 VO1 (out), 6 GND (power), 7 BYPASS, 8 VO2 (out)

## LM4865M/NOPB
designator U?
750mW Audio Power Amplifier with DC Volume Control and Headphone Switch, 8-pin Narrow SOIC, Pb-Free; PartNumber: LM4865M/NOPB; Manufacturer: National Semiconductor; PackageTopMarking: NSZXTT*LM48*65M; PowerWise: N; CompType: Audio IC; Published: 1-Mar-2010; DatasheetVersion: Oct-2002; PackageVersion: revM, May-2009; PackageReference: M08A; Publisher: Altium Limited; PackageDescription: SOIC Narrow, 4.9 x 3.9 x 1.45mm, 8 Lead, 1.27mm Pitch; Supplier 1: Digi-Key; Supplier Part Number 1: LM4865M-ND; Supplier 2: Farnell; Supplier Part Number 2: 1206116; RoHS: Y; PinCount: 8; Code_JEDEC: MS-012-AA; Code_IPC: SOIC127P600-8; ComponentLink1Description: LM4865 Datasheet; ComponentLink1URL: http://www.national.com/ds/LM/LM4865.pdf; ComponentLink2Description: LM4865 Web Page; ComponentLink2URL: http://www.national.com/pf/LM/LM4865.html; ComponentLink3Description: M08A Package Page; ComponentLink3URL: http://www.national.com/packaging/folders/m08a.html
footprint M08A_N (SOIC, 8-Leads, Body 4.9x3.9mm, Pitch 1.27mm, IPC Medium Density)
footprint M08A_L (SOIC, 8-Leads, Body 4.9x3.9mm, Pitch 1.27mm, IPC High Density)
footprint M08A_M (SOIC, 8-Leads, Body 4.9x3.9mm, Pitch 1.27mm, IPC Low Density)
pins: 1 VDD (power), 2 -VIN (in), 3 HP SENSE (in), 4 DC VOL/~{SD} (in), 5 VO1 (out), 6 GND (power), 7 BYPASS, 8 VO2 (out)

## LM4865MM
designator U?
750mW Audio Power Amplifier with DC Volume Control and Headphone Switch, 8-pin Mini SOIC; PartNumber: LM4865MM; Manufacturer: National Semiconductor; PackageTopMarking: ZXTT*Z65; PowerWise: N; CompType: Audio IC; Published: 4-Dec-2008; DatasheetVersion: Oct-2002; PackageVersion: revF, Apr-2008; PackageReference: MUA08A; Publisher: Altium Limited; PackageDescription: MINI SOIC, .118 x .118 x .034in, 8 Lead, .0256in Pitch; Supplier 1: Digi-Key; Supplier Part Number 1: LM4865MMTR-ND; Supplier 2: Digi-Key; Supplier Part Number 2: LM4865MMCT-ND; RoHS: N; PinCount: 8; Code_JEDEC: MO-187-AA; ComponentLink1Description: LM4865 Datasheet; ComponentLink1URL: http://www.national.com/ds/LM/LM4865.pdf; ComponentLink2Description: LM4865 Web Page; ComponentLink2URL: http://www.national.com/pf/LM/LM4865.html; ComponentLink3Description: MUA08A Package Page; ComponentLink3URL: http://www.national.com/packaging/folders/mua08a.html
footprint MUA08A_N (TSOP, 8-Leads, Body 3x3mm, Pitch 0.65mm, IPC Medium Density)
footprint MUA08A_L (TSOP, 8-Leads, Body 3x3mm, Pitch 0.65mm, IPC High Density)
footprint MUA08A_M (TSOP, 8-Leads, Body 3x3mm, Pitch 0.65mm, IPC Low Density)
pins: 1 VDD (power), 2 -VIN (in), 3 HP SENSE (in), 4 DC VOL/~{SD} (in), 5 VO1 (out), 6 GND (power), 7 BYPASS, 8 VO2 (out)